# Altium schematic symbol library Discrete.SchLib: 2 symbols
Pins are listed as number, name and electrical type; pins without a type are passive.

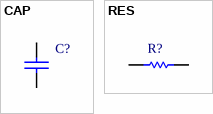
[diagram p0: symbols CAP to RES]

## CAP
designator C?  (value not drawn)
pins: 1, 2

## RES
designator R?  (value not drawn)
pins: 1, 2